# Altium footprint library Headers.PcbLib: 4 footprints
Each footprint in its own frame and in the unit in brackets; x right, y up, seen from the top. Pads: shape width x height; smd on the part's side, far side on the other; paste and mask are expansions set on the pad; w line width, h text height; cw(c..) or ccw(c..) is an arc to the next point about the centre after c.
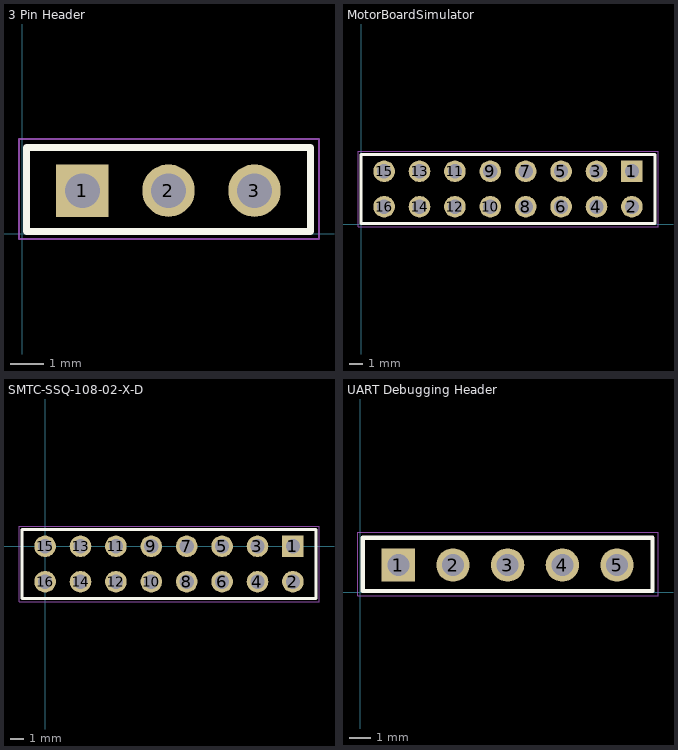
[diagram p0: the footprints below, top view; thin cyan lines are the x and y axes]

## 3 Pin Header [mm]
pads (3):
  rect 1.55x1.55 hole 1.02: 1(1.778,1.27)
  round 1.55 hole 1.02: 2(4.318,1.27) 3(6.858,1.27)
Top Overlay:
  lines w0.2: 0.128,0.065 0.128,2.54 8.509,2.54 8.509,0.065 0.128,0.065
Mechanical 13:
  lines w0.1: 0.128,0.065 0.128,2.54 8.509,2.54 8.509,2.048 8.509,1.866 8.509,1.247 8.509,0.811 8.509,0.065 0.128,0.065
Mechanical 15:
  lines w0.05: -0.097,-0.16 -0.097,2.794 8.763,2.794 8.763,2.056 8.763,0.579 8.763,-0.16 -0.097,-0.16

## MotorBoardSimulator [mm]
pads (16):
  rect 1.55x1.55 hole 1.02: 1(19.431,3.81)
  round 1.55 hole 1.02: 2(19.431,1.27) 3(16.891,3.81) 4(16.891,1.27) 5(14.351,3.81) 6(14.351,1.27) 7(11.811,3.81) 8(11.811,1.27) 9(9.271,3.81) 10(9.271,1.27) 11(6.731,3.81) 12(6.731,1.27) 13(4.191,3.81) 14(4.191,1.27) 15(1.651,3.81) 16(1.651,1.27)
Top Overlay:
  lines w0.2: 0.001,0.065 0.001,5.015 21.081,5.015 21.081,0.065 0.001,0.065
Mechanical 13:
  lines w0.1: 0.001,0.065 0.001,5.015 21.081,5.015 21.081,0.065 0.001,0.065
Mechanical 15:
  lines w0.05: -0.224,-0.16 -0.224,5.24 21.306,5.24 21.306,-0.16 -0.224,-0.16
3D body "Motor Unit Rev 3 (1).step": height 29.96, standoff 9.02, extent -7.62,-68.453 43.18,7.747
3D body "SSQ-108-02-X-D.step": height 8.51, standoff -4.93, extent 0.127,0.064 20.955,5.017

## SMTC-SSQ-108-02-X-D [mm] "SQ Post Socket, 2x8 Pins, Vertical, 2.54mm Pitch, Female"
height 8.51
pads (16):
  rect 1.55x1.55 hole 1.02: 1(17.78,0)
  round 1.55 hole 1.02: 2(17.78,-2.54) 3(15.24,0) 4(15.24,-2.54) 5(12.7,0) 6(12.7,-2.54) 7(10.16,0) 8(10.16,-2.54) 9(7.62,0) 10(7.62,-2.54) 11(5.08,0) 12(5.08,-2.54) 13(2.54,0) 14(2.54,-2.54) 15(0,0) 16(0,-2.54)
Top Overlay:
  lines w0.2: -1.65,-3.745 -1.65,1.205 19.43,1.205 19.43,-3.745 -1.65,-3.745
Mechanical 13:
  lines w0.1: -1.65,-3.745 -1.65,1.205 19.43,1.205 19.43,-3.745 -1.65,-3.745
Mechanical 15:
  lines w0.05: -1.875,-3.97 -1.875,1.43 19.655,1.43 19.655,-3.97 -1.875,-3.97
3D body "SSQ-108-02-X-D.step": height 8.51, standoff -4.93, extent -1.524,-3.746 19.304,1.207

## UART Debugging Header [mm]
pads (5):
  rect 1.55x1.55 hole 1.02: 1(1.778,1.27)
  round 1.55 hole 1.02: 2(4.318,1.27) 3(6.858,1.27) 4(9.398,1.27) 5(11.938,1.27)
Top Overlay:
  lines w0.2: 0.128,0.065 0.128,2.54 13.589,2.54 13.589,0.065 0.128,0.065
Mechanical 13:
  lines w0.1: 13.462,0.065 0.128,0.065 0.128,2.54 13.462,2.54 ; 13.589,0.065 13.589,0.811 13.589,2.048 13.589,2.54
Mechanical 15:
  lines w0.05: -0.097,-0.16 -0.097,2.794 13.843,2.794 13.843,-0.16 -0.097,-0.16